# Altium footprint library Microchip.PcbLib: 6 footprints
Each footprint in its own frame and in the unit in brackets; x right, y up, seen from the top. Pads: shape width x height; smd on the part's side, far side on the other; paste and mask are expansions set on the pad; w line width, h text height; cw(c..) or ccw(c..) is an arc to the next point about the centre after c.
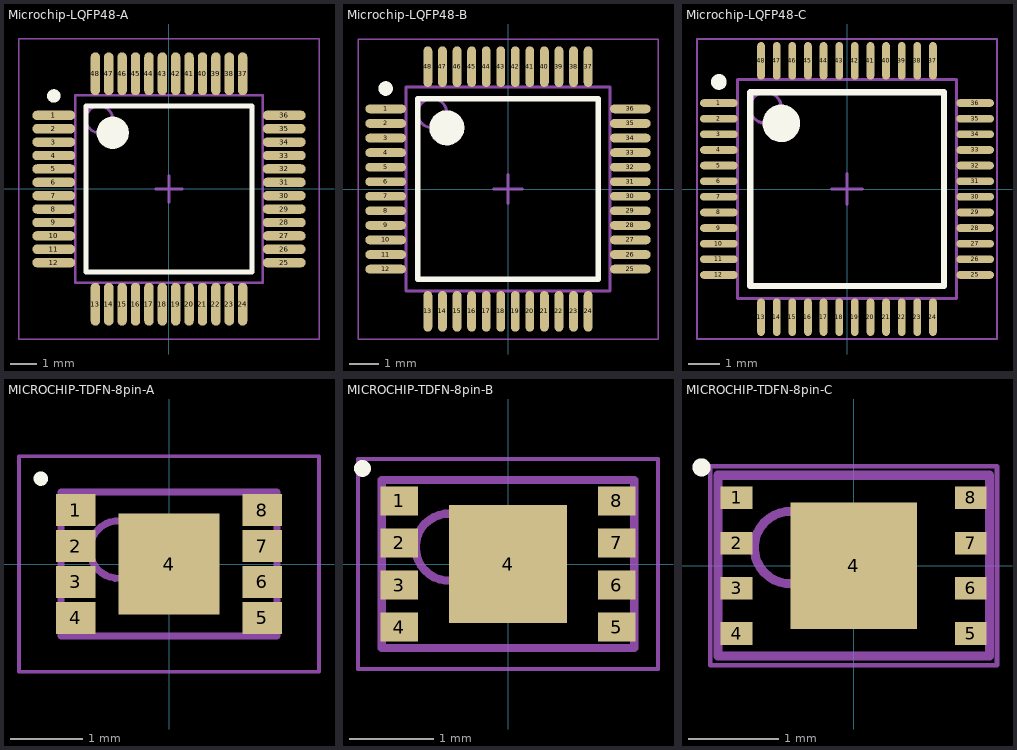
[diagram p0: the footprints below, top view; thin cyan lines are the x and y axes]

## Microchip-LQFP48-A [mm] "TSQFP, 48-Leads, Body 7.00x7.00mm, Pitch 0.50mm, IPC Low Density"
height 1.6
pads (48):
  oval 1.6x0.35 smd: 1(-4.3,2.75) 2(-4.3,2.25) 3(-4.3,1.75) 4(-4.3,1.25) 5(-4.3,0.75) 6(-4.3,0.25) 7(-4.3,-0.25) 8(-4.3,-0.75) 9(-4.3,-1.25) 10(-4.3,-1.75) 11(-4.3,-2.25) 12(-4.3,-2.75) 25(4.3,-2.75) 26(4.3,-2.25) 27(4.3,-1.75) 28(4.3,-1.25) 29(4.3,-0.75) 30(4.3,-0.25) 31(4.3,0.25) 32(4.3,0.75) 33(4.3,1.25) 34(4.3,1.75) 35(4.3,2.25) 36(4.3,2.75)
  oval 0.35x1.6 smd: 13(-2.75,-4.3) 14(-2.25,-4.3) 15(-1.75,-4.3) 16(-1.25,-4.3) 17(-0.75,-4.3) 18(-0.25,-4.3) 19(0.25,-4.3) 20(0.75,-4.3) 21(1.25,-4.3) 22(1.75,-4.3) 23(2.25,-4.3) 24(2.75,-4.3) 37(2.75,4.3) 38(2.25,4.3) 39(1.75,4.3) 40(1.25,4.3) 41(0.75,4.3) 42(0.25,4.3) 43(-0.25,4.3) 44(-0.75,4.3) 45(-1.25,4.3) 46(-1.75,4.3) 47(-2.25,4.3) 48(-2.75,4.3)
Top Overlay:
  circle w0.25: c-4.3,3.475 r0.125
  circle w0.6: c-2.1,2.1 r0.3
  lines w0.2: -3.1,-3.1 -3.1,3.1 3.1,3.1 3.1,-3.1 -3.1,-3.1
Mechanical 13:
  circle w0.1: c-2.6,2.6 r0.5
  lines w0.1: -3.5,-3.5 -3.5,3.5 3.5,3.5 3.5,-3.5 -3.5,-3.5
Mechanical 15:
  lines w0.05: -5.6,-5.6 -5.6,5.6 5.6,5.6 5.6,-5.6 -5.6,-5.6
  lines w0.1: -0.5,0 0.5,0 ; 0,-0.5 0,0.5
3D body "Microchip-LQFP48-A.step": height 1.6, standoff 0, extent -4.5,-4.5 4.5,4.5

## Microchip-LQFP48-B [mm] "TSQFP, 48-Leads, Body 7.00x7.00mm, Pitch 0.50mm, IPC Medium Density"
height 1.6
pads (48):
  oval 1.4x0.3 smd: 1(-4.2,2.75) 2(-4.2,2.25) 3(-4.2,1.75) 4(-4.2,1.25) 5(-4.2,0.75) 6(-4.2,0.25) 7(-4.2,-0.25) 8(-4.2,-0.75) 9(-4.2,-1.25) 10(-4.2,-1.75) 11(-4.2,-2.25) 12(-4.2,-2.75) 25(4.2,-2.75) 26(4.2,-2.25) 27(4.2,-1.75) 28(4.2,-1.25) 29(4.2,-0.75) 30(4.2,-0.25) 31(4.2,0.25) 32(4.2,0.75) 33(4.2,1.25) 34(4.2,1.75) 35(4.2,2.25) 36(4.2,2.75)
  oval 0.3x1.4 smd: 13(-2.75,-4.2) 14(-2.25,-4.2) 15(-1.75,-4.2) 16(-1.25,-4.2) 17(-0.75,-4.2) 18(-0.25,-4.2) 19(0.25,-4.2) 20(0.75,-4.2) 21(1.25,-4.2) 22(1.75,-4.2) 23(2.25,-4.2) 24(2.75,-4.2) 37(2.75,4.2) 38(2.25,4.2) 39(1.75,4.2) 40(1.25,4.2) 41(0.75,4.2) 42(0.25,4.2) 43(-0.25,4.2) 44(-0.75,4.2) 45(-1.25,4.2) 46(-1.75,4.2) 47(-2.25,4.2) 48(-2.75,4.2)
Top Overlay:
  circle w0.25: c-4.2,3.45 r0.125
  circle w0.6: c-2.1,2.1 r0.3
  lines w0.2: -3.1,-3.1 -3.1,3.1 3.1,3.1 3.1,-3.1 -3.1,-3.1
Mechanical 13:
  circle w0.1: c-2.6,2.6 r0.5
  lines w0.1: -3.5,-3.5 -3.5,3.5 3.5,3.5 3.5,-3.5 -3.5,-3.5
Mechanical 15:
  lines w0.05: -5.15,-5.15 -5.15,5.15 5.15,5.15 5.15,-5.15 -5.15,-5.15
  lines w0.1: -0.5,0 0.5,0 ; 0,-0.5 0,0.5
3D body "Microchip-LQFP48-B.step": height 1.6, standoff 0, extent -4.5,-4.5 4.5,4.5

## Microchip-LQFP48-C [mm] "TSQFP, 48-Leads, Body 7.00x7.00mm, Pitch 0.50mm, IPC High Density"
height 1.6
pads (48):
  oval 1.2x0.25 smd: 1(-4.1,2.75) 2(-4.1,2.25) 3(-4.1,1.75) 4(-4.1,1.25) 5(-4.1,0.75) 6(-4.1,0.25) 7(-4.1,-0.25) 8(-4.1,-0.75) 9(-4.1,-1.25) 10(-4.1,-1.75) 11(-4.1,-2.25) 12(-4.1,-2.75) 25(4.1,-2.75) 26(4.1,-2.25) 27(4.1,-1.75) 28(4.1,-1.25) 29(4.1,-0.75) 30(4.1,-0.25) 31(4.1,0.25) 32(4.1,0.75) 33(4.1,1.25) 34(4.1,1.75) 35(4.1,2.25) 36(4.1,2.75)
  oval 0.25x1.2 smd: 13(-2.75,-4.1) 14(-2.25,-4.1) 15(-1.75,-4.1) 16(-1.25,-4.1) 17(-0.75,-4.1) 18(-0.25,-4.1) 19(0.25,-4.1) 20(0.75,-4.1) 21(1.25,-4.1) 22(1.75,-4.1) 23(2.25,-4.1) 24(2.75,-4.1) 37(2.75,4.1) 38(2.25,4.1) 39(1.75,4.1) 40(1.25,4.1) 41(0.75,4.1) 42(0.25,4.1) 43(-0.25,4.1) 44(-0.75,4.1) 45(-1.25,4.1) 46(-1.75,4.1) 47(-2.25,4.1) 48(-2.75,4.1)
Top Overlay:
  circle w0.6: c-2.1,2.1 r0.3
  circle w0.25: c-4.1,3.425 r0.125
  lines w0.2: -3.1,-3.1 3.1,-3.1 3.1,3.1 -3.1,3.1 -3.1,-3.1
Mechanical 13:
  circle w0.1: c-2.6,2.6 r0.5
  lines w0.1: -3.5,-3.5 3.5,-3.5 3.5,3.5 -3.5,3.5 -3.5,-3.5
Mechanical 15:
  lines w0.05: -4.8,-4.8 4.8,-4.8 4.8,4.8 -4.8,4.8 -4.8,-4.8
  lines w0.1: -0.5,0 0.5,0 ; 0,-0.5 0,0.5
3D body "Microchip-LQFP48-C.step": height 1.6, standoff 0, extent -4.5,-4.5 4.5,4.5

## MICROCHIP-TDFN-8pin-A [mm] "PSON, 8-Leads, Body 2.00x3.00mm, Pitch 0.50mm, Thermal Pad 1.40x1.40mm, IPC Low Density"
height 0.8
pads (9):
  rect 0.55x0.45 smd: 1(-1.295,0.75) 2(-1.295,0.25) 3(-1.295,-0.25) 4(-1.295,-0.75) 5(1.295,-0.75) 6(1.295,-0.25) 7(1.295,0.25) 8(1.295,0.75)
  rect 1.4x1.4 smd: 4(0,0)
Top Overlay:
  circle w0.1: c-1.782,1.187 r0.05
Mechanical 13:
  circle w0.1: c-0.7,0.2 r0.4
  lines w0.1: -1.5,-1 -1.5,1 1.5,1 1.5,-1 -1.5,-1
Mechanical 15:
  lines w0.05: -2.085,-1.5 -2.085,1.5 2.085,1.5 2.085,-1.5 -2.085,-1.5
  lines w0.1: -0.5,0 0.5,0 ; 0,-0.5 0,0.5
3D body "MICROCHIP-TDFN-8pin-A.step": height 0.8, standoff 0, extent -1.501,-1 1.501,1

## MICROCHIP-TDFN-8pin-B [mm] "PSON, 8-Leads, Body 2.00x3.00mm, Pitch 0.50mm, Thermal Pad 1.40x1.40mm, IPC Medium Density"
height 0.8
pads (9):
  rect 0.45x0.35 smd: 1(-1.295,0.75) 2(-1.295,0.25) 3(-1.295,-0.25) 4(-1.295,-0.75) 5(1.295,-0.75) 6(1.295,-0.25) 7(1.295,0.25) 8(1.295,0.75)
  rect 1.4x1.4 smd: 4(0,0)
Top Overlay:
  circle w0.1: c-1.732,1.137 r0.05
Mechanical 13:
  circle w0.1: c-0.7,0.2 r0.4
  lines w0.1: -1.5,-1 1.5,-1 1.5,1 -1.5,1 -1.5,-1
Mechanical 15:
  lines w0.05: -1.785,-1.25 1.785,-1.25 1.785,1.25 -1.785,1.25 -1.785,-1.25
  lines w0.1: -0.5,0 0.5,0 ; 0,-0.5 0,0.5
3D body "MICROCHIP-TDFN-8pin-B.step": height 0.8, standoff 0, extent -1.501,-1 1.501,1

## MICROCHIP-TDFN-8pin-C [mm] "PSON, 8-Leads, Body 2.00x3.00mm, Pitch 0.50mm, Thermal Pad 1.40x1.40mm, IPC High Density"
height 0.8
pads (9):
  rect 0.35x0.25 smd: 1(-1.295,0.75) 2(-1.295,0.25) 3(-1.295,-0.25) 4(-1.295,-0.75) 5(1.295,-0.75) 6(1.295,-0.25) 7(1.295,0.25) 8(1.295,0.75)
  rect 1.4x1.4 smd: 4(0,0)
Top Overlay:
  circle w0.1: c-1.682,1.087 r0.05
Mechanical 13:
  circle w0.1: c-0.7,0.2 r0.4
  lines w0.1: -1.5,-1 1.5,-1 1.5,1 -1.5,1 -1.5,-1
Mechanical 15:
  lines w0.05: -1.585,-1.1 1.585,-1.1 1.585,1.1 -1.585,1.1 -1.585,-1.1
  lines w0.1: -0.5,0 0.5,0 ; 0,-0.5 0,0.5
3D body "MICROCHIP-TDFN-8pin-CC.step": height 0.8, standoff 0, extent -1.501,-1 1.501,1